# Altium footprint library Conn.Samtec.PcbLib: 2 footprints
Each footprint in its own frame and in the unit in brackets; x right, y up, seen from the top. Pads: shape width x height; smd on the part's side, far side on the other; paste and mask are expansions set on the pad; w line width, h text height; cw(c..) or ccw(c..) is an arc to the next point about the centre after c.
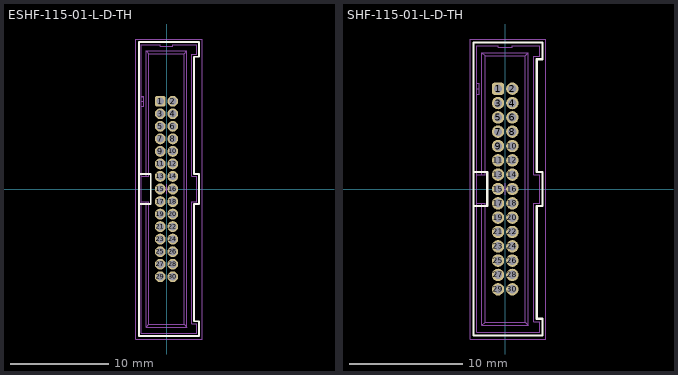
[diagram p0: the footprints below, top view; thin cyan lines are the x and y axes]

## ESHF-115-01-L-D-TH [mm] "Samtec ESHF Header, 30-Leads, 1.27mm Pitch"
height 5.33
pads (30):
  rrect50% 1.1x1.1 hole 0.75: 1(-0.635,8.89)
  round 1.1 hole 0.75: 2(0.635,8.89) 3(-0.635,7.62) 4(0.635,7.62) 5(-0.635,6.35) 6(0.635,6.35) 7(-0.635,5.08) 8(0.635,5.08) 9(-0.635,3.81) 10(0.635,3.81) 11(-0.635,2.54) 12(0.635,2.54) 13(-0.635,1.27) 14(0.635,1.27) 15(-0.635,0) 16(0.635,0) 17(-0.635,-1.27) 18(0.635,-1.27) 19(-0.635,-2.54) 20(0.635,-2.54) 21(-0.635,-3.81) 22(0.635,-3.81) 23(-0.635,-5.08) 24(0.635,-5.08) 25(-0.635,-6.35) 26(0.635,-6.35) 27(-0.635,-7.62) 28(0.635,-7.62) 29(-0.635,-8.89) 30(0.635,-8.89)
Top Overlay:
  lines w0.2: -2.8,-1.5 -1.6,-1.5 -1.6,1.5 -2.8,1.5 ; -2.8,-14.9 -2.8,14.9 3.3,14.9 3.3,13.4 2.8,13.4 2.8,1.5 3.3,1.5 3.3,-1.5 2.8,-1.5 2.8,-13.4 3.3,-13.4 3.3,-14.9 -2.8,-14.9
Bottom Overlay:
  region: -1.385,8.89 -2.251,8.39 -2.251,9.39
Mechanical 1:
  drawing of 399 lines, arcs and shapes, not listed
Mechanical 15:
  lines w0.05: -3.1,-15.2 -3.1,15.2 3.6,15.2 3.6,-15.2 -3.1,-15.2
  lines w0.1: -0.5,0 0.5,0 ; 0,-0.5 0,0.5
3D body "ESHF-115-01-L-D-TH.STEP": height 5.34, standoff -1.9, extent -2.545,-14.605 3.045,14.605

## SHF-115-01-L-D-TH [mm] "Samtec SHF Header, 30-Leads, 1.27mm Pitch"
height 5.33
pads (30):
  rrect50% 1.1x1.1 hole 0.75: 1(-0.635,8.89)
  round 1.1 hole 0.75: 2(0.635,8.89) 3(-0.635,7.62) 4(0.635,7.62) 5(-0.635,6.35) 6(0.635,6.35) 7(-0.635,5.08) 8(0.635,5.08) 9(-0.635,3.81) 10(0.635,3.81) 11(-0.635,2.54) 12(0.635,2.54) 13(-0.635,1.27) 14(0.635,1.27) 15(-0.635,0) 16(0.635,0) 17(-0.635,-1.27) 18(0.635,-1.27) 19(-0.635,-2.54) 20(0.635,-2.54) 21(-0.635,-3.81) 22(0.635,-3.81) 23(-0.635,-5.08) 24(0.635,-5.08) 25(-0.635,-6.35) 26(0.635,-6.35) 27(-0.635,-7.62) 28(0.635,-7.62) 29(-0.635,-8.89) 30(0.635,-8.89)
Top Overlay:
  lines w0.2: -2.8,-1.5 -1.6,-1.5 -1.6,1.5 -2.8,1.5 ; -2.8,-13 3.3,-13 3.3,-11.5 2.8,-11.5 2.8,-1.5 3.3,-1.5 3.3,1.5 2.8,1.5 2.8,11.5 3.3,11.5 3.3,13 -2.8,13 -2.8,-13
Bottom Overlay:
  region: -1.385,8.89 -2.251,8.39 -2.251,9.39
Mechanical 1:
  drawing of 219 lines, arcs and shapes, not listed
Mechanical 15:
  lines w0.05: -3.1,-13.3 3.6,-13.3 3.6,13.3 -3.1,13.3 -3.1,-13.3
  lines w0.1: -0.5,0 0.5,0 ; 0,-0.5 0,0.5
3D body "SHF-115-01-L-D-TH.stp": height 5.33, standoff -1.91, extent -2.54,-12.7 3.048,12.7